# EAGLE library part LM358N (library Fairchild-LM358N)
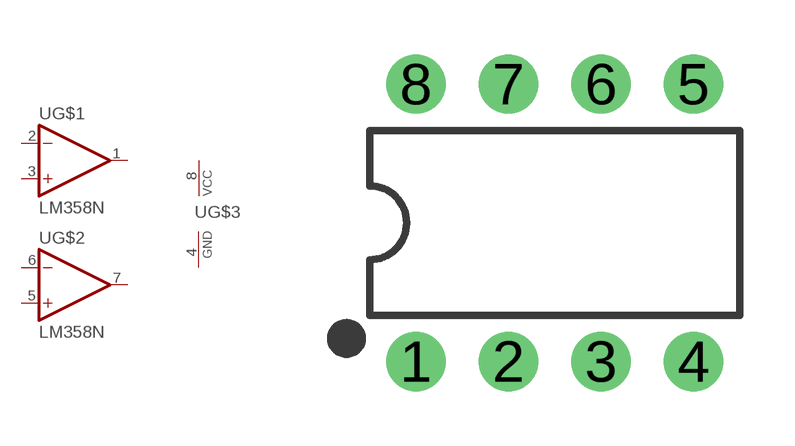
[diagram p0: symbol with the pads of DIP08; footprint DIP08]

Designator prefix U; gates G$1=OP-AMP G$2=OP-AMP G$3=PWRN

## LM358N  [DIP08]
1  G$1:OUT  out
2  G$1:-IN  in
3  G$1:+IN  in
4  G$3:GND  pas
5  G$2:+IN  in
6  G$2:-IN  in
7  G$2:OUT  out
8  G$3:VCC  pwr

## Footprint DIP08 (pad centres in mm)
Dual In Line Package
drill 0.813 pad 1.626: 1 -3.81,-3.81; 2 -1.27,-3.81; 3 1.27,-3.81; 4 3.81,-3.81; 5 3.81,3.81; 6 1.27,3.81; 7 -1.27,3.81; 8 -3.81,3.81